# Altium footprint library Infineon IPM.PcbLib: 1 footprints
Each footprint in its own frame and in the unit in brackets; x right, y up, seen from the top. Pads: shape width x height; smd on the part's side, far side on the other; paste and mask are expansions set on the pad; w line width, h text height; cw(c..) or ccw(c..) is an arc to the next point about the centre after c.
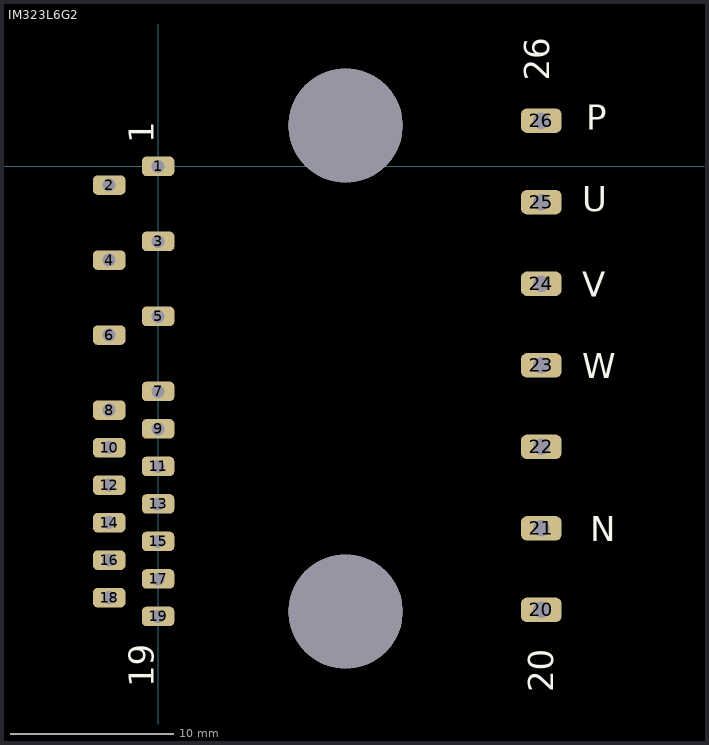
[diagram p0: the footprint, top view; thin cyan lines are the x and y axes]

## IM323L6G2 [mm]
pads (28):
  rrect50% 2x1.2 hole 0.8: 1(0,0) 2(-3,-1.15) 3(0,-4.6) 4(-3,-5.75) 5(0,-9.2) 6(-3,-10.35) 7(0,-13.8) 8(-3,-14.95) 9(0,-16.1) 10(-3,-17.25) 11(0,-18.4) 12(-3,-19.55) 13(0,-20.7) 14(-3,-21.85) 15(0,-23) 16(-3,-24.15) 17(0,-25.3) 18(-3,-26.45) 19(0,-27.6)
  rrect50% 2.5x1.5 hole 1: 20(23.5,-27.2) 21(23.5,-22.2) 22(23.5,-17.2) 23(23.5,-12.2) 24(23.5,-7.2) 25(23.5,-2.2) 26(23.5,2.8)
  round 7 hole 7 unplated: ""(11.5,-27.3) ""(11.5,2.5)
Top Overlay:
  text "N" at 26.504,-22.996 h1.52
  text "W" at 26.004,-12.996 h1.52
  text "V" at 26.004,-7.996 h1.52
  text "U" at 26.004,-2.746 h1.52
  text "P" at 26.254,2.254 h1.52
  text "26" at 23.996,5.254 h1.52
  text "20" at 24.246,-32.246 h1.52
  text "19" at -0.254,-31.946 h1.52
  text "1" at -0.254,1.404 h1.52
3D body "Infineon IPM.step": height 3.68, standoff -6, extent -3.175,-28.425 23.625,4.375